# EAGLE library part ESP-12S (library esp8266modules)
RF SOLUTIONS - ESP-12S - WIFI MODULE, 2.484GHZ, 9 I/O PORT Source: Datasheet <https://www.rfsolutions.co.uk/downloads/1494602250ESP-07S_Datasheet.pdf>
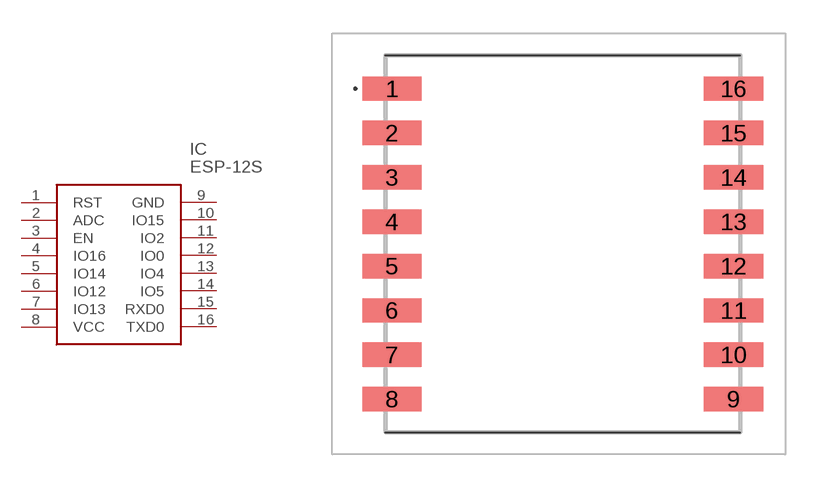
[diagram p21: symbol with the pads of ESP12S; footprint ESP12S]

Designator prefix IC

## ESP-12S (Arrow_Part_Number: ESP-12S; Arrow_Price/Stock: http://uk.rs-online.com/web/p/products/1697596; Description: RF SOLUTIONS - ESP-12S - WIFI MODULE, 2.484GHZ, 9 I/O PORT; Height: 3mm; Manufacturer_Name: RF SOLUTIONS; Manufacturer_Part_Number: ESP-12S; RS_Part_Number: 1697596; RS_Price/Stock: http://uk.rs-online.com/web/p/products/1697596)  [ESP12S]
1  RST
2  ADC
3  EN
4  IO16
5  IO14
6  IO12
7  IO13
8  VCC
9  GND
10  IO15
11  IO2
12  IO0
13  IO4
14  IO5
15  RXD0
16  TXD0

## Footprint ESP12S (pad centres in mm)
ESP-12S
smd 2.66 x 1.1: 1 -7,7; 2 -7,5; 3 -7,3; 4 -7,1; 5 -7,-1; 6 -7,-3; 7 -7,-5; 8 -7,-7; 9 8.4,-7; 10 8.4,-5; 11 8.4,-3; 12 8.4,-1; 13 8.4,1; 14 8.4,3; 15 8.4,5; 16 8.4,7